# EAGLE library part TXB0101 (library invensense)
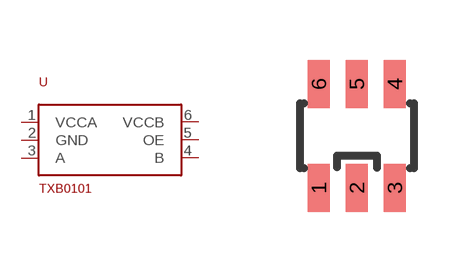
[diagram p4: symbol with the pads of SOT23-6; footprint SOT23-6]

Designator prefix -

## TXB0101  [SOT23-6]
1  VCCA
2  GND
3  A
4  B
5  OE
6  VCCB

## Footprint SOT23-6 (pad centres in mm)
smd 0.55 x 1.2: 1 -0.95,-1.3; 2 0,-1.3; 3 0.95,-1.3; 4 0.95,1.3; 5 0,1.3; 6 -0.95,1.3